# Altium footprint library OMRON.PcbLib: 4 footprints
Each footprint in its own frame and in the unit in brackets; x right, y up, seen from the top. Pads: shape width x height; smd on the part's side, far side on the other; paste and mask are expansions set on the pad; w line width, h text height; cw(c..) or ccw(c..) is an arc to the next point about the centre after c.
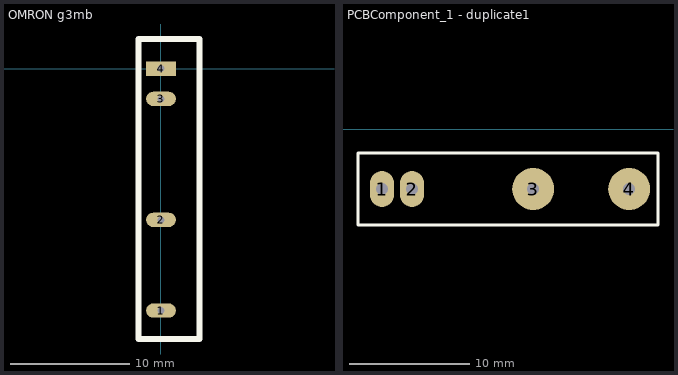
[diagram p0: the footprints below, top view; thin cyan lines are the x and y axes]

## OMRON g3mb [mm]
pads (4):
  oval 2.5x1.2 hole 0.6: 1(0,-20.32) 2(0,-12.7) 3(0,-2.54)
  rect 2.5x1.2 hole 0.6: 4(0,0)
Top Overlay:
  lines w0.508: -1.88,-22.708 3.226,-22.708 3.226,2.489 -1.88,2.489 -1.88,-22.708
3D body: height 14.3, standoff -3.5, extent -1.579,-22.359 2.921,2.141

## PCBComponent_1 [mm]

## PCBComponent_1 - duplicate [mm]

## PCBComponent_1 - duplicate1 [mm]
pads (4):
  oval 2x3 hole 1: 1(5,-5) 2(7.5,-5)
  round 3.5 hole 1: 3(17.6,-5) 4(25.6,-5)
Top Overlay:
  lines w0.254: 3,-8 28,-8 28,-2 5,-2 3,-2 3,-8